# Altium footprint library Diodes.PcbLib: 8 footprints
Each footprint in its own frame and in the unit in brackets; x right, y up, seen from the top. Pads: shape width x height; smd on the part's side, far side on the other; paste and mask are expansions set on the pad; w line width, h text height; cw(c..) or ccw(c..) is an arc to the next point about the centre after c.
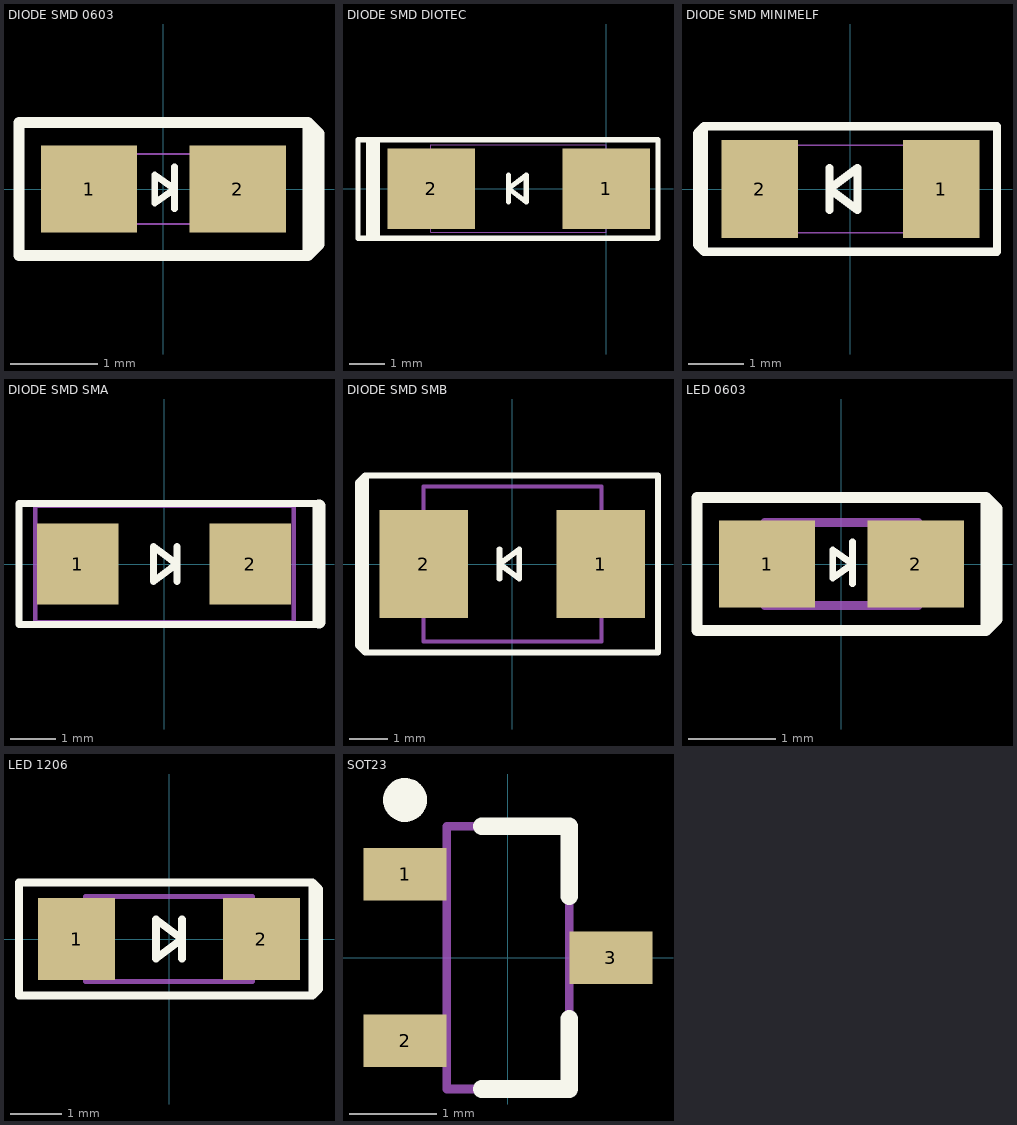
[diagram p0: the footprints below, top view; thin cyan lines are the x and y axes]

## DIODE SMD 0603 [mm]
height 0.65
pads (2):
  rect 1.1x1 smd: 1(-0.85,0) 2(0.85,0)
Top Overlay:
  lines w0.076: 0.127,-0.225 0.127,0 ; 0.127,0.254 0.127,0 ; 0.127,0 -0.101,0.163 -0.101,-0.163 0.127,0
  lines w0.127: 1.651,-0.762 -1.651,-0.762 -1.651,0.762 1.651,0.762 ; 1.651,-0.762 1.651,0.762 ; 1.651,-0.762 1.778,-0.635 1.778,0.635 1.651,0.762
Mechanical 1:
  lines w0.025: -0.8,-0.4 0.8,-0.4 0.8,0.4 -0.8,0.4 -0.8,-0.4
3D body "Led0603_GRE.stp": height 1.1, standoff 0, extent -0.81,-0.4 0.81,0.4

## DIODE SMD DIOTEC [mm]
height 2.5
pads (2):
  rect 2.5x2.3 smd: 1(0,0) 2(-5,0)
Top Overlay:
  lines w0.15: -2.794,0 -2.286,-0.381 -2.286,0.381 -2.794,0
  lines w0.151: -2.794,-0.381 -2.794,0.381
  lines w0.152: -6.784,-1.372 -6.784,1.346 ; -6.657,-1.372 -6.657,1.321 ; -6.53,-1.372 -6.53,1.321 ; -7.087,-1.422 -7.087,1.397 1.473,1.397 1.473,-1.422 -0.009,-1.422 -7.087,-1.422
Mechanical 1:
  lines w0.025: -5.004,-1.245 0,-1.245 0,1.245 -5.004,1.245 -5.004,-1.245
3D body: height 2.49, standoff 0, extent -4.964,-1.25 -0.014,1.245
3D body: height 2.5, standoff -0.01, extent -5.004,-1.257 -4.504,1.257
3D body: height 2.5, standoff 0, extent -0.508,-1.254 -0.008,1.254
3D body: height 2.5, standoff -0.01, extent -4.031,-1.257 -3.531,1.257

## DIODE SMD MINIMELF [mil]
height 62.99
pads (2):
  rect 55x70 smd: 1(65.1,0) 2(-65.1,0)
Top Overlay:
  lines w5.91: -15,0 5,-15 5,15 -15,0
  lines w5.95: -15,-15 -15,15
  lines w6: -105,-45 -105,45 ; -105,-45 -110,-40 -110,40 -105,45 ; -105,-45 53.75,-45 105,-45 105,45 -105,45
Mechanical 1:
  lines w1: -72.83,-31.5 72.83,-31.5 72.83,31.5 -72.83,31.5 -72.83,-31.5
3D body "User_Library-minimelf.stp": height 57.56, standoff 2.44, extent -68.9,-27.5 68.9,27.5

## DIODE SMD SMA [mil]
height 96.06
pads (2):
  rect 70x70 smd: 1(-74.07,0) 2(74.07,0)
Top Overlay:
  lines w5.91: -9,-15 -9,15 11,0 -9,-15
  lines w5.95: 11,-15 11,15
  lines w6: 133.17,-52 -124.7,-52 -124.7,52 133.17,52
  lines w11: 133.17,-50 133.17,50
Mechanical 1:
  lines w3.94: -110.7,-50 111.3,-50 111.3,50 -110.7,50 -110.7,-50
3D body: height 40, standoff 35, extent 70.3,-47 74.3,47
3D body: height 39.37, standoff 0, extent -99.7,-48 100.3,48

## DIODE SMD SMB [mil]
height 96.06
pads (2):
  rect 90x110 smd: 1(90,0) 2(-90,0)
Top Overlay:
  lines w3: -153.5,-86.5 -153.5,86.5
  lines w5.91: -13,0 7,15 7,-15 -13,0
  lines w5.95: -13,-15 -13,15
  lines w6: -150,-90 -157,-83 -157,83 -150,90 ; -149,-90 -149,90 -145,90 -140,90 148,90 148,-90 -149,-90
Mechanical 1:
  lines w3.94: -98.43,-43.31 -98.43,43.31 -90.55,43.31 -90.55,78.74 90.55,78.74 90.55,43.31 98.43,43.31 98.43,-43.31 90.55,-43.31 90.55,-78.74 -90.55,-78.74 -90.55,-43.31 -98.43,-43.31
3D body: height 96.06, standoff 7.87, extent -90,-77.56 90,77.56
3D body: height 7.87, standoff 0, extent -97.46,-43.34 -52.54,43.35
3D body: height 47.24, standoff 7.87, extent -97.46,-43.31 -90.55,43.35
3D body: height 7.87, standoff 0, extent 52.54,-43.35 97.46,43.35
3D body: height 47.24, standoff 7.87, extent 90.53,-43.31 97.44,43.35

## LED 0603 [mm] "Chip Diode, 2-Leads"
height 0.45
pads (2):
  rect 1.1x1 smd: 1(-0.85,0) 2(0.85,0)
Top Overlay:
  lines w0.076: 0.127,-0.225 0.127,0 ; 0.127,0.254 0.127,0 ; 0.127,0 -0.101,-0.163 -0.101,0.163 0.127,0
  lines w0.127: 1.651,-0.762 -1.651,-0.762 -1.651,0.762 1.651,0.762 ; 1.651,-0.762 1.651,0.762 ; 1.651,-0.762 1.778,-0.635 1.778,0.508 1.778,0.635 1.651,0.762
Mechanical 13:
  lines w0.1: -0.875,-0.475 0.875,-0.475 0.875,0.475 -0.875,0.475 -0.875,-0.475
3D body "LED 0603 Base WHITE.STEP": height 0.28, standoff 0, extent -0.8,-0.4 0.8,0.4
3D body "LED 0603 Lens WHITE.STEP": height 0.53, standoff 0.18, extent -0.55,-0.4 0.55,0.4

## LED 1206 [mm] "Chip Diode, 2-Leads"
height 0.7
pads (2):
  rect 1.5x1.6 smd: 1(-1.8,0) 2(1.8,0)
Top Overlay:
  lines w0.15: -2.921,-0.846 -2.921,1.1 2.794,1.1 ; -2.921,-0.805 -2.921,-1.1 2.794,-1.1 ; 2.794,-1.1 2.794,-0.254 2.794,1.1 ; 2.794,-1.1 2.921,-0.973 2.921,0.973 2.794,1.1 ; -0.254,-0.381 -0.254,0.381 0.254,0 -0.254,-0.381
  lines w0.151: 0.254,-0.381 0.254,0.381
Mechanical 13:
  lines w0.1: -1.625,-0.825 1.625,-0.825 1.625,0.825 -1.625,0.825 -1.625,-0.825
3D body "LED 1206 Lens WHITE.STEP": height 0.9, standoff 0.3, extent -0.75,-0.8 0.75,0.8
3D body "LED 1206 Base WHITE.STEP": height 0.4, standoff 0, extent -1.6,-0.8 1.6,0.8

## SOT23 [mm] "SOT23, 3-Leads, Body 2.90x2.40mm, Pitch 0.95mm, IPC Medium Density"
height 1.1
pads (3):
  rect 0.95x0.6 smd: 1(-1.175,0.95) 2(-1.175,-0.95) 3(1.175,0)
Top Overlay:
  circle w0.25: c-1.175,1.8 r0.125
  lines w0.2: -0.3,-1.5 0.7,-1.5 0.7,-0.7 ; -0.3,1.5 0.7,1.5 0.7,0.7
Mechanical 13:
  lines w0.1: -0.7,-1.5 -0.7,1.5 0.7,1.5 0.7,-1.5 -0.7,-1.5
3D body: height 1.1, standoff 0.05, extent -0.7,-1.5 0.7,1.5